# EAGLE library part ESP-WROOM-02 (library YosanoLoveButton)
WiFi module - ESP-WROOM-02
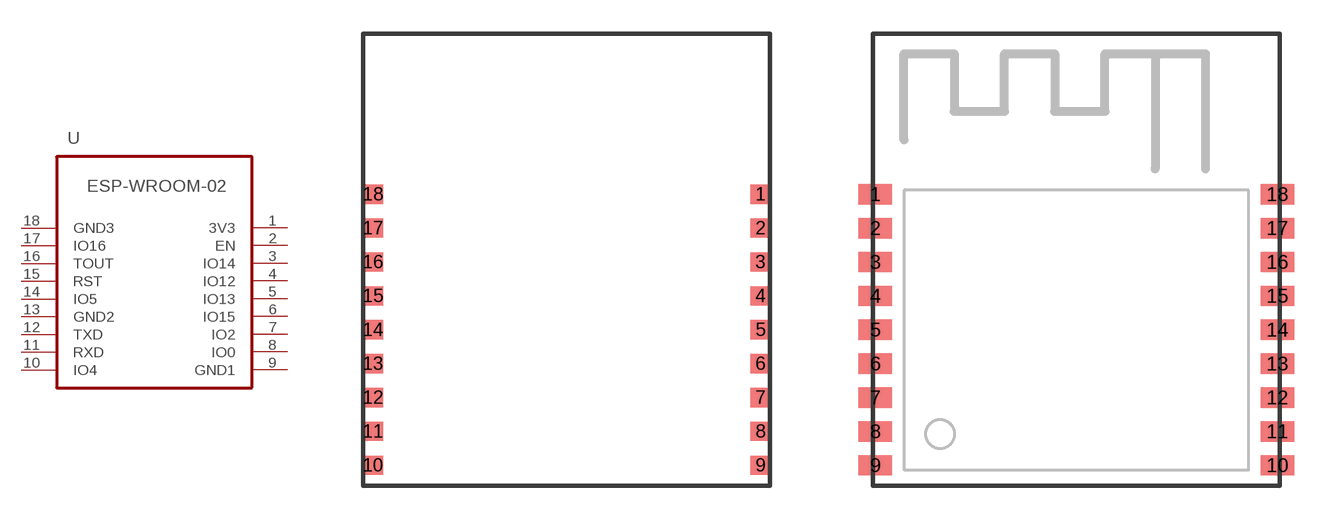
[diagram p0: symbol with the pads of BACK-FACE; footprints BACK-FACE, FRONT-FACE]

Designator prefix U

## ESP-WROOM-02B  [BACK-FACE]
1  3V3  pwr
2  EN
3  IO14
4  IO12
5  IO13
6  IO15
7  IO2
8  IO0
9  GND1  pwr
10  IO4
11  RXD
12  TXD
13  GND2  pwr
14  IO5  oc
15  RST
16  TOUT
17  IO16
18  GND3  pwr

## ESP-WROOM-02F (MF: Espressif; MPN: ESP-WROOM-02; OC_AKIZUKI: M-9607; OC_SENGOKU: EEHD-4SH8; OC_SWITCHSCIENCE: 2346)  [FRONT-FACE]
Pads as for BACK-FACE

## Footprint BACK-FACE (pad centres in mm)
Back Face Top
smd 0.9 x 0.85: 1 8.575,4.9; 2 8.575,3.4; 3 8.575,1.9; 4 8.575,0.4; 5 8.575,-1.1; 6 8.575,-2.6; 7 8.575,-4.1; 8 8.575,-5.6; 9 8.575,-7.1; 10 -8.575,-7.1; 11 -8.575,-5.6; 12 -8.575,-4.1; 13 -8.575,-2.6; 14 -8.575,-1.1; 15 -8.575,0.4; 16 -8.575,1.9; 17 -8.575,3.4; 18 -8.575,4.9

## Footprint FRONT-FACE (pad centres in mm)
Front Face Top
smd 1.485 x 0.9: 1 -8.893,4.9; 2 -8.893,3.4; 3 -8.893,1.9; 4 -8.893,0.4; 5 -8.893,-1.1; 6 -8.893,-2.6; 7 -8.893,-4.1; 8 -8.893,-5.6; 9 -8.893,-7.1; 10 8.893,-7.1; 11 8.893,-5.6; 12 8.893,-4.1; 13 8.893,-2.6; 14 8.893,-1.1; 15 8.893,0.4; 16 8.893,1.9; 17 8.893,3.4; 18 8.893,4.9